# EAGLE library part MAX4617 (library hsk_2012)
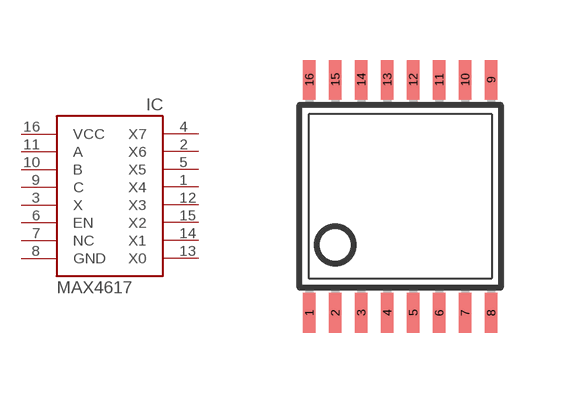
[diagram p33: symbol with the pads of TSSOP16; footprint TSSOP16]

Designator prefix IC

## MAX4617  [TSSOP16]
1  X4  in
2  X6  in
3  X  out
4  X7  in
5  X5  in
6  EN  in
7  NC  nc
8  GND  pwr
9  C  in
10  B  in
11  A  in
12  X3  in
13  X0  in
14  X1  in
15  X2  in
16  VCC  pwr

## Footprint TSSOP16 (pad centres in mm)
Thin Shrink Small Outline Plastic 16 MAX3223-MAX3243.pdf
smd 0.305 x 0.991: 1 -2.275,-2.918; 2 -1.625,-2.918; 3 -0.975,-2.918; 4 -0.325,-2.918; 5 0.325,-2.918; 6 0.975,-2.918; 7 1.625,-2.918; 8 2.275,-2.918; 9 2.275,2.918; 10 1.625,2.918; 11 0.975,2.918; 12 0.325,2.918; 13 -0.325,2.918; 14 -0.975,2.918; 15 -1.625,2.918; 16 -2.275,2.918